# Altium schematic symbol library MyLibrary.SchLib: 320 symbols (part 3 of 7)
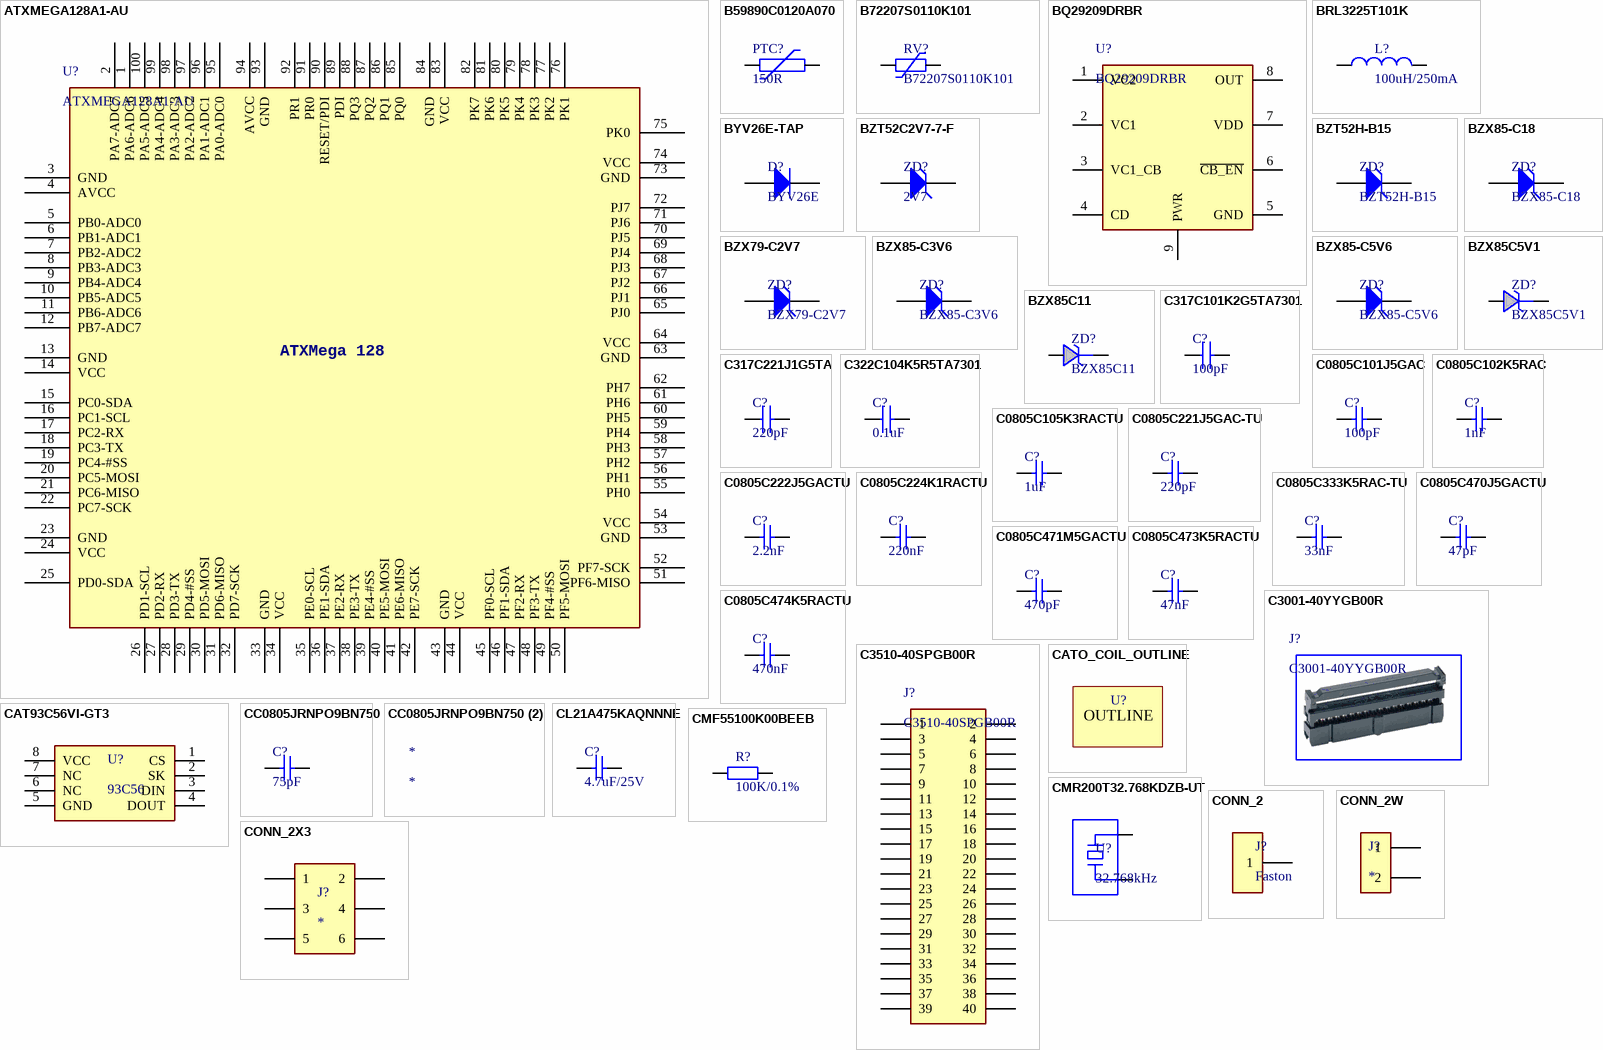
[diagram p10: symbols ATXMEGA128A1-AU to CONN_2X3]

## BZX85-C5V6
designator ZD?
ZENER 5.6V SOD123 1.3W; Manufacturer: FAIRCHILD SEMICONDUCTOR; Zener Voltage Vz Typ: 5.6; Power Dissipation Pd: 1; Diode Case Style: DO-41 (DO-204; Zener Tolerance ±: 5%; No. of Pins: 2; Product Range: BZX85; SVHC: No SVHC (15-Jun-2015); External Diameter: 2.6; External Length / Height: 4.8; Test Current: 45; Zener Current: 45mA<!--FANDB--><div class="features-and-benefits-container"><div class="features-and-benefits-description"><span class="features-benefits-value">The BZX85-C5V6 is a Zener Diode with glass case. This product is general usage and suitable for many different applications.</span></div><div class="features-and-benefits-list"><ul class="features-and-benefits-list-list"><li class="features-and-benefits-list-item">-65 to 200; .PCBChecked: BP; Manufacturer Part Number: BZX85-C5V6; RoHS: YES; Operating Temperature Max: 200; Packaging: Each; Automotive Qualification Standard: -; Device Marking: BZX85-C5V6; Diode Type: Zener; Operating Temperature Min: -65; Operating Temperature Range: -65°C to +200; Power Dissipation Max: 1; Power Dissipation Ptot Max: 1; Tolerance: 5%; ComponentLink1URL: http://www.farnell.com/datasheets/2277360.pdf; ComponentLink1Description: Datasheet; Category: Diodes; Package: SOD3716X135N; Type: SMD; .SCHChecked: BP; Supplier 1: Future Electronics; Supplier Part Number 1: MMSZ4690T1G
footprint SOD123 (SODFL, 2-Leads, Body 1,50x5,20mm, IPC Medium Density)
pins: A, C

## BZX85-C18
designator ZD?
ZENER 18V DO41 1W; Manufacturer: Fairchild Semiconductor; Configuration: Single; Nominal Zener Voltage: 17.95 V; Zener Voltage Tolerance: 5 %; Maximum Power Dissipation: 1000 mW; Maximum Reverse Leakage Current: 0.5 uA; Rad Hard: No; Supplier 1: Farnell; Manufacturer Part Number: BZX85-C18; Stock 1: 4164; Pricing 1: 5=0.182, 25=0.178, 100=0.0687, 1000=0.0344, 3000=0.0319, 6000=0.0293, 20000=0.0262, 60000=0.0257 (EUR); Package: 2DO-41; Operating Temperature: -65 to 200 °C; Mounting: Through Hole; Category: Zener; Packaging: Bulk; ComponentLink1URL: https://datasheet.ciiva.com/25623/0900766b810c0855-25623848.pdf; ComponentLink1Description: Datasheet; Supplier Part Number 1: 9844120; Type: THT; Package: DO41
footprint DIODA-DO41-AC
pins: A, C

## BZX85C5V1
designator ZD?
ZENER 5.1V DO41 1W; Manufacturer: Fairchild/ON Semiconductor; Tolerance: ±6%; Current - Reverse Leakage @ Vr: 1µA @ 2V; Voltage - Forward (Vf) (Max) @ If: 1.2V @ 200mA; Manufacturer Part Number: BZX85C5V1; RoHS: RoHS Compliant; Category: Discrete Semiconductor Products; Packaging: Bulk; Part Status: Active; Power - Max: 1W; Operating Temperature: -65°C ~ 200°C; Mounting Type: Through Hole; Package: DO-204AL, DO-41, Axial; Supplier Device Package: DO-204AL (DO-41); ComponentLink1URL: https://www.fairchildsemi.com/datasheets/BZ/BZX85C10.pdf; ComponentLink1Description: Datasheet; Type: THT; Supplier 1: Farnell; Supplier Part Number 1: 9844244
footprint DIODA-DO41-AC
pins: A, C

## BZX85C11
designator ZD?
ZENER 11V DO41 1W; Manufacturer: Fairchild/ON Semiconductor; Tolerance: ±5%; Current - Reverse Leakage @ Vr: 500nA @ 7.7V; Voltage - Forward (Vf) (Max) @ If: 1.2V @ 200mA; Supplier 1: Mouser; Manufacturer Part Number: BZX85C11; RoHS: RoHS Compliant; Category: Discrete Semiconductor Products; Stock 1: 317; Pricing 1: 1=0.22, 10=0.181, 100=0.0958, 500=0.063, 1000=0.04284 (USD); Packaging: Bulk; Part Status: Active; Power - Max: 1W; Operating Temperature: -65°C ~ 200°C; Mounting Type: Through Hole; Package: DO-204AL, DO-41, Axial; Supplier Device Package: DO-204AL (DO-41); ComponentLink1URL: https://www.fairchildsemi.com/datasheets/BZ/BZX85C10.pdf; ComponentLink1Description: Datasheet; Supplier Part Number 1: 512-BZX85C11; Type: THT
footprint DIODA-DO41-AC
pins: A, C

## C317C101K2G5TA7301
designator C?, comment 100pF
CAP 100pF RADIAL 200V; Manufacturer: KEMET; Manufacturer Part Number: C317C101K2G5TA7301; Rad Hard: No; Product Height: 5.84(Max) mm; Voltage: 200 Vdc; Tolerance: 10 %; Dielectric: C0G; Lead Pitch For Radial: 5.08 mm; Product Length: 3.81(Max) mm; Product Depth: 2.54(Max) mm; Type: THT; Supplier 1: Elfa; Stock 1: 7120; Pricing 1: 1=0.3, 10=0.208, 100=0.1246, 500=0.0934, 1000=0.0789 (USD); Package/Case: 3.81(Max) X 2.54(Max) X 5.84(Max); Mounting: Through Hole; Capacitance Value: 100 pF; Operating Temperature: -55 to 125 °C; Package: Radial; Category: Capacitor Ceramic Multilayer; ComponentLink1URL: https://datasheet.ciiva.com/32430/c052-62-mlcc-series-eng-tds-32430862.pdf; ComponentLink1Description: Datasheet; Supplier Part Number 1: 165-70-733
footprint CAP_THT_5.08
pins: 1, 2

## C317C221J1G5TA
designator C?, comment 220pF
CAP 220PF RADIAL 100V; Manufacturer: KEMET; Manufacturer Part Number: C317C221J1G5TA; Dielectric Material: Ceramic; Tolerance: 5%; Dielectric: C0G; Dissipation Factor: 0.1%; Temperature Coefficient: 30ppm/°C; Lead/Base Style: Formed Leads; Lead Diameter: 0.51mm; Lead Length: 7mm; Type: THT; Supplier 1: Farnell; Stock 1: 0; Mount: Through Hole,PCB; Package: Radial; Number of Pins: 2; Min Operating Temperature: -55°C; Max Operating Temperature: 125°C; Capacitance: 220pF; Voltage Rating: 100V; Packaging: Bulk; Package Quantity: 500; Voltage Rating (DC): 100V; Termination: Radial; Composition: Ceramic; Voltage: 100V; Length: 3.81mm; Height: 2.54mm; Lead Pitch: 5.08mm; Width: 0.1inch; Height - Seated (Max): 0.23inch; Depth: 2.54mm; Radiation Hardening: No; REACH SVHC: No SVHC; Lead Free: Lead Free; ComponentLink1URL: https://datasheet.ciiva.com/5389/f3101-goldmax-334604-5389051.pdf; ComponentLink1Description: Datasheet; Supplier Part Number 1: 1457667
footprint CAP_THT_5.08
pins: 1, 2

## C322C104K5R5TA7301
designator C?, comment 0.1uF
CAP 0.1UF RADIAL 50V; Manufacturer: KEMET; Manufacturer Part Number: C322C104K5R5TA7301; Capacitance: 0.1µF; Tolerance: ±10%; Temperature Coefficient: X7R; Type: THT; Supplier 1: Avnet Abacus; RoHS: RoHS Compliant; Category: Capacitors; Stock 1: 25000; Pricing 1: 2500=0.05, 5000=0.04625, 12500=0.0415, 25000=0.04, 62500=0.0375, 125000=0.03313 (USD); Packaging: Tape & Reel (TR); Part Status: Active; Voltage - Rated: 50V; Operating Temperature: -55°C ~ 125°C; Features: -; Ratings: -; Applications: General Purpose; Failure Rate: -; Mounting Type: Through Hole; Package: Radial; Size / Dimension: 0.200" L x 0.125" W (5.08mm x 3.18mm); Height - Seated (Max): 0.260" (6.60mm); Thickness (Max): -; Lead Spacing: 0.200" (5.08mm); Lead Style: Formed Leads; ComponentLink1URL: http://www.kemet.com/Lists/ProductCatalog/Attachments/598/KEM_C1050_GOLDMAX_X7R.pdf; ComponentLink1Description: Datasheet; Supplier Part Number 1: C323C104K5R5TA7317
footprint KONDENZ-5,08-L-7,4
pins: 1, 2

## C0805C101J5GAC
designator C?, comment 100pF
CAP 100pF 0805 50V; Manufacturer: KEMET; Manufacturer Part Number: C0805C101J5GAC; Capacitance tolerance: ±5%; Ceramic type: NPO; Construction form: 0805; Rated voltage: 50VDC; Type: SMD; Supplier 1: Mouser; Stock 1: 108000; Pricing 1: 10000=0.016 (USD); Capacitance: 100pF; Temperature range: -55...+125°C; ComponentLink1URL: https://datasheet.ciiva.com/11786/0900766b8116eaf8-11786066.pdf; ComponentLink1Description: Datasheet; Supplier Part Number 1: 80-C0805C101J5GAC; Package: CAPC2012X88N
footprint C0805
footprint CAPC2012X09N (Chip Capacitor, 2-Leads, Body 2.00x1.25mm, IPC Medium Density)
pins: 1, 2 20

## C0805C102K5RAC
designator C?, comment 1nF
CAP 1nF 0805 50V; Manufacturer: KEMET; Manufacturer Part Number: C0805C102K5RAC; Part # Aliases: C0805C102K5RACTU; Capacitance: 1000 pF; Capacitance - uF: 0.001 uF; Case Height: 0.78 mm; Dissipation Factor DF: 2.5; Dielectric: X7R; Case Length: 2 mm; Case Width: 1.2 mm; Class: Class 1; Tolerance: 10 %; Temperature Coefficient / Code: +/- 15 %; Type: SMD; Supplier 1: Mouser; Stock 1: 48000; Pricing 1: 10000=0.006 (USD); Brand: Kemet; Capacitance - nF: 1 nF; Case Code - in: 0805; Case Code - mm: 2012; Dimensions: 1.2 mm W x 2 mm L x 0.78 mm H; Factory Pack Quantity: 4000; Product Category: Multilayer Ceramic Capacitors MLCC - SMD/SMT; RoHS: Details; Minimum Operating Temperature: - 55 C; Maximum Operating Temperature: + 125 C; Product: General Type MLCCs; Lead Spacing: 0.75 mm; Operating Temperature Range: - 55 C to + 125 C; Package: CAPC2012X88N; Packaging: Reel; Series: C0805C; Termination Style: SMD/SMT; Voltage Rating: 50 V; Voltage Rating DC: 50 V; ComponentLink1URL: https://datasheet.ciiva.com/48436/slceramic-chip-condensers-e-48436649.pdf; ComponentLink1Description: Datasheet; Supplier Part Number 1: 80-C0805C102K5RAC
footprint C0805
footprint CAPC2012X09N (Chip Capacitor, 2-Leads, Body 2.00x1.25mm, IPC Medium Density)
pins: 1, 2 20

## C0805C105K3RACTU
designator C?, comment 1uF
CAP 1UF 0805 25V; Manufacturer: KEMET; Manufacturer Part Number: C0805C105K3RACTU; Capacitance: 1µF; Tolerance: ±10%; Temperature Coefficient: X7R; Type: SMD; .PCBChecked: BP; Supplier 1: Avnet Abacus; RoHS: RoHS Compliant; Category: Capacitors; Stock 1: 215000; Pricing 1: 2500=0.0189, 5000=0.01739, 12500=0.01512, 25000=0.01436, 62500=0.01285, 125000=0.0104 (USD); Packaging: Tape & Reel (TR); Part Status: Active; Voltage - Rated: 25V; Operating Temperature: -55°C ~ 125°C; Features: Low ESL; Ratings: -; Applications: General Purpose; Failure Rate: -; Mounting Type: Surface Mount, MLCC; Package: CAPC2012X88N; Size / Dimension: 0.079" L x 0.049" W (2.00mm x 1.25mm); Height - Seated (Max): -; Thickness (Max): 0.055" (1.40mm); Lead Spacing: -; Lead Style: -; ComponentLink1URL: http://www.kemet.com/docfinder?Partnumber=C0805C105K3RACTU; ComponentLink1Description: Datasheet; Supplier Part Number 1: C0805C105K3RACTU; .SCHChecked: BP
footprint C0805
footprint CAPC2012X09N (Chip Capacitor, 2-Leads, Body 2.00x1.25mm, IPC Medium Density)
pins: 1, 2 20

## C0805C221J5GAC-TU
designator C?, comment 220pF
CAP 220PF 0805 50V; Manufacturer: KEMET; Manufacturer Part Number: C0805C221J5GAC-TU; Dielectric Material: Ceramic; Tolerance: 5%; Dielectric: C0G; Temperature Coefficient: 30ppm/°C; Dissipation Factor: 0.1%; Type: SMD; Supplier 1: Avnet; Stock 1: 1553; Pricing 1: 1=0.0177, 40=0.0177, 100=0.0176, 200=0.0176, 500=0.0175 (USD); Mount: Surface Mount,PCB; Case/Package: 0805; Number of Pins: 2; Case Code (Metric): 2012; Case Code (Imperial): 0805; Contact Material: Tin; Min Operating Temperature: -55°C; Max Operating Temperature: 125°C; Capacitance: 220pF; Voltage Rating (DC): 50V; Packaging: Tape and Reel; Voltage: 50V; Termination: SMD/SMT; Voltage Rating: 50V; Package Quantity: 1; Length: 2mm; Height: 0.78mm; Depth: 1.25mm; Width: 0.049inch; Thickness: 0.035inch; Lead Pitch: 0.75mm; Radiation Hardening: No; Lead Free: Lead Free; REACH SVHC: No SVHC; ComponentLink1URL: https://datasheet.ciiva.com/5421/kem-c1003-c0g-smd-356956-5421295.pdf; ComponentLink1Description: Datasheet; Supplier Part Number 1: C0805C221J5GAC TU/BKN; Package: CAPC2012X88N
footprint C0805
footprint CAPC2012X09N (Chip Capacitor, 2-Leads, Body 2.00x1.25mm, IPC Medium Density)
pins: 1, 2 20

## C0805C222J5GACTU
designator C?, comment 2.2nF
CAP 2.2NF 0805 50V; Manufacturer: KEMET; Manufacturer Part Number: C0805C222J5GACTU; Dielectric Material: Ceramic; Tolerance: 5%; Dielectric: C0G; Temperature Coefficient: 30ppm/°C; Type: SMD; Supplier 1: Digi-Key; RoHS: Yes; Stock 1: 1635; Pricing 1: 1 = 0.27000, 10 = 0.18100, 100 = 0.09180, 500 = 0.06280, 1000 = 0.05556 (USD); Mount: Surface Mount; Case/Package: 0805; Number of Pins: 2; Weight: 0.000194oz; Case Code (Metric): 2012; Case Code (Imperial): 0805; Contact Plating: Tin; Min Operating Temperature: -55°C; Max Operating Temperature: 125°C; Capacitance: 2.2nF; Packaging: Tape and Reel; Voltage Rating: 50V; Package Quantity: 1; Voltage Rating (DC): 50V; Termination: SMD/SMT; Voltage: 50V; Length: 2mm; Height: 0.78mm; Width: 0.049inch; Thickness: 0.035inch; Depth: 1.25mm; Radiation Hardening: No; REACH SVHC: No SVHC; Lead Free: Lead Free; ComponentLink1URL: https://datasheet.ciiva.com/18193/getdatasheetpartid-349416-18193654.pdf?src-supplier=Verical; ComponentLink1Description: Datasheet; Supplier Part Number 1: 399-8042-1-ND; Package: CAPC2012X88N
footprint C0805
footprint CAPC2012X09N (Chip Capacitor, 2-Leads, Body 2.00x1.25mm, IPC Medium Density)
pins: 1, 2 20

## C0805C224K1RACTU
designator C?, comment 220nF
CAP 220NF 0805 100V; Manufacturer: KEMET; Manufacturer Part Number: C0805C224K1RACTU; Dielectric Material: Ceramic; Tolerance: 10%; Dielectric: X7R; Type: SMD; Supplier 1: Farnell; Stock 1: 11912; Pricing 1: 5=0.25700, 50=0.15700, 250=0.12000, 500=0.10300, 1000=0.08790 (GBP); RoHS: Yes; Mount: Surface Mount; Case/Package: 0805; Number of Pins: 2; Case Code (Metric): 2012; Case Code (Imperial): 0805; Min Operating Temperature: -55°C; Max Operating Temperature: 125°C; Package Quantity: 1; Packaging: Tape and Reel; Termination: SMD/SMT; Voltage: 100V; Capacitance: 220nF; Voltage Rating: 100V; Voltage Rating (DC): 100V; Length: 2mm; Height: 1.25mm; Width: 0.049inch; Depth: 1.25mm; Thickness: 0.055inch; Radiation Hardening: No; REACH SVHC: No SVHC; ComponentLink1URL: https://datasheet.ciiva.com/22699/1851736-22699751.pdf?src-supplier=Element14; ComponentLink1Description: Datasheet; Supplier Part Number 1: 1793829; Package: CAPC2012X88N
footprint C0805
footprint CAPC2012X09N (Chip Capacitor, 2-Leads, Body 2.00x1.25mm, IPC Medium Density)
pins: 1, 2 20

## C0805C333K5RAC-TU
designator C?, comment 33nF
CAP 33NF 0805 50V; Manufacturer: KEMET; Manufacturer Part Number: C0805C333K5RAC-TU; Dielectric Material: Ceramic; Tolerance: 10%; Dielectric: X7R; Type: SMD; Supplier 1: Avnet; Stock 1: 297119; Pricing 1: 4000=0.0122, 8000=0.0108, 16000=0.0107, 24000=0.0107, 40000=0.0093 (USD); Mount: Surface Mount,PCB; Case/Package: 0805; Number of Pins: 2; Case Code (Imperial): 0805; Case Code (Metric): 2012; Contact Plating: Tin,Matte; Min Operating Temperature: -55°C; Max Operating Temperature: 125°C; Capacitance: 33nF; Packaging: Tape and Reel; Voltage Rating (DC): 50V; Termination: SMD/SMT; Voltage: 50V; Voltage Rating: 50V; Package Quantity: 1; Length: 2mm; Height: 0.78mm; Depth: 1.25mm; Width: 1.2mm; Lead Pitch: 0.75mm; Thickness: 0.035inch; Radiation Hardening: No; REACH SVHC: No SVHC; ComponentLink1URL: https://datasheet.ciiva.com/14589/70095383-14589566.pdf; ComponentLink1Description: Datasheet; Supplier Part Number 1: C0805C333K5RAC TU; Package: CAPC2012X88N
footprint C0805
footprint CAPC2012X09N (Chip Capacitor, 2-Leads, Body 2.00x1.25mm, IPC Medium Density)
pins: 1, 2 20

## C0805C470J5GACTU
designator C?, comment 47pF
CAP 47PF 0805 50V; Manufacturer: KEMET; Manufacturer Part Number: C0805C470J5GACTU; Type: SMD; .PCBChecked: BP; Supplier 1: Avnet Abacus; RoHS: YES; Stock 1: 27155; Pricing 1: 10=0.0265, 100=0.0178, 500=0.0131, 1000=0.0103, 2000=0.01 (GBP); ComponentLink1URL: http://www.farnell.com/datasheets/2207127.pdf; ComponentLink1Description: Datasheet; Supplier Part Number 1: C0805C470J5GACTU; Category: Capacitors; .SCHChecked: BP; Package: CAPC2012X88N
footprint C0805
footprint CAPC2012X09N (Chip Capacitor, 2-Leads, Body 2.00x1.25mm, IPC Medium Density)
pins: 1, 2 20

## C0805C471M5GACTU
designator C?, comment 470pF
CAP 470PF 0805 50V; Manufacturer: KEMET; Manufacturer Part Number: C0805C471M5GACTU; Dielectric Material: Ceramic; Tolerance: 20%; Dielectric: C0G; Dissipation Factor: 0.1%; Type: SMD; Supplier 1: Avnet Europe; Stock 1: 0; Pricing 1: 8000=0.0443, 16000=0.0318, 24000=0.0265, 40000=0.021, 80000=0.0186 (EUR); Mount: Surface Mount; Case/Package: 0805; Case Code (Metric): 2012; Case Code (Imperial): 0805; Min Operating Temperature: -55°C; Max Operating Temperature: 125°C; Package Quantity: 4000; Capacitance: 470pF; Voltage Rating: 50V; Packaging: Tape and Reel; Voltage Rating (DC): 50V; Termination: SMD/SMT; Length: 2mm; Height: 0.78mm; Width: 0.049inch; Thickness: 0.035inch; Lead Pitch: 0.75mm; Depth: 1.25mm; Lead Free: Lead Free; ComponentLink1URL: https://datasheet.ciiva.com/13381/kem-c1003-c0g-smd-356956-13381565.pdf; ComponentLink1Description: Datasheet; Supplier Part Number 1: C0805C471M5GAC7800; Package: CAPC2012X88N
footprint C0805
footprint CAPC2012X09N (Chip Capacitor, 2-Leads, Body 2.00x1.25mm, IPC Medium Density)
pins: 1, 2 20

## C0805C473K5RACTU
designator C?, comment 47nF
CAP 47NF 0805 50V; Manufacturer: KEMET; Manufacturer Part Number: C0805C473K5RACTU; Type: SMD; .PCBChecked: BP; Supplier 1: Farnell; RoHS: YES; Stock 1: 48135; Pricing 1: 10=0.0316, 100=0.0207, 500=0.0156, 1000=0.0119, 2000=0.011 (GBP); ComponentLink1URL: http://www.farnell.com/datasheets/2207129.pdf; ComponentLink1Description: Datasheet; Supplier Part Number 1: 1414697; Category: Capacitors; Package: CAPC2012X88N; .SCHChecked: BP
footprint C0805
footprint CAPC2012X09N (Chip Capacitor, 2-Leads, Body 2.00x1.25mm, IPC Medium Density)
pins: 1, 2 20

## C0805C474K5RACTU
designator C?, comment 470nF
CAP 470nF 0805 50V; Manufacturer: KEMET; Manufacturer Part Number: C0805C474K5RACTU; Part # Aliases: C0805C474K5RAC7800; Capacitance: 0.47 uF; Capacitance - pF: 470000 pF; Case Height: 1 mm; Dielectric: X7R; Case Length: 2 mm; Case Width: 1.2 mm; Class: Class 1; Tolerance: 10 %; Temperature Coefficient / Code: +/- 15 %; Type: SMD; Supplier 1: Avnet Abacus; Stock 1: 95318; Pricing 1: 1=0.28, 10=0.193, 100=0.1092, 500=0.0771, 1000=0.0675 (USD); Brand: Kemet; Capacitance - nF: 470 nF; Case Code - in: 0805; Case Code - mm: 2012; Dimensions: 1.2 mm W x 2 mm L x 1 mm H; Factory Pack Quantity: 2500; Voltage Rating: 50 V; Product Category: Multilayer Ceramic Capacitors MLCC - SMD/SMT; RoHS: Details; Voltage Rating DC: 50 V; Minimum Operating Temperature: - 55 C; Maximum Operating Temperature: + 125 C; Product: General Type MLCCs; Operating Temperature Range: - 55 C to + 125 C; Package: CAPC2012X88N; Packaging: Reel; Series: C0805C; Termination Style: SMD/SMT; ComponentLink1URL: https://datasheet.ciiva.com/5411/kem-c1002-x7r-smd-5411451.pdf; ComponentLink1Description: Datasheet; Supplier Part Number 1: C0805C102K5RACTU
footprint C0805
footprint CAPC2012X09N (Chip Capacitor, 2-Leads, Body 2.00x1.25mm, IPC Medium Density)
pins: 1, 2 20

## C3001-40YYGB00R
designator J?  (no BOM)
CONN2X20 IDC FEMALE; Manufacturer: Hsuan Mao Technology; Current Rating: 1A; Pitch: 2.54mm; Number of Contacts: 40; Supplier 1: Distrelec; Manufacturer Part Number: C3001-40YYGB00R; Stock 1: 2240; Pricing 1: 1 = 1.64000, 50 = 1.38000, 100 = 1.16000 (EUR); Contact Material: Bronze; Housing Material: Thermoplastic; Contact Gender: Female; Gender: Female; ComponentLink1URL: https://datasheet.ciiva.com/14157/04315008-14157205.pdf?src-supplier=Distrelec; ComponentLink1Description: Datasheet; Supplier Part Number 1: 14315073; Number of Rows: 2; Type: THT

## C3510-40SPGB00R
designator J?
CONN2X20 IDC MALE; Manufacturer: Hsuan Mao Technology; Current Rating: 3A; Pitch: 2.54mm; Supplier 1: Elfa; Manufacturer Part Number: C3510-40SPGB00R; Stock 1: 2061; Pricing 1: 1 = 1.11000, 50 = 0.87000, 100 = 0.64000 (EUR); Contact Material: Gold; Housing Material: Thermoplastic; Contact Gender: Male; ComponentLink1URL: https://datasheet.ciiva.com/14156/04315503-14156870.pdf?src-supplier=Distrelec; ComponentLink1Description: Datasheet; Supplier Part Number 1: 14315560; Type: THT
footprint CONN2X20_MOLEX
pins: 1, 2, 3, 4, 5, 6, 7, 8, 9, 10, 11, 12, 13, 14, 15, 16, 17, 18, 19, 20, 21, 22, 23, 24, 25, 26, 27, 28, 29, 30, 31, 32, 33, 34, 35, 36, 37, 38, 39, 40

## CAT93C56VI-GT3
designator U?, comment 93C56
EEPROM 2KBIT SOIC8 2MHz; Manufacturer: ON Semiconductor; Manufacturer Part Number: CAT93C56VI-GT3; Memory Type: Non-Volatile; Memory Size: 2Kb (256 x 8, 128 x 16); Interface: Microwire, 3-Wire Serial; Voltage - Supply: 1.8 V ~ 5.5 V; .PCBChecked: BP; Supplier 1: RS Components; RoHS: RoHS Compliant; Category: Integrated Circuits (ICs); Stock 1: 7025; Pricing 1: 1=0.2, 10=0.201, 100=0.1647, 500=0.16008, 1000=0.1558 (USD); Packaging: Cut Tape (CT); Part Status: Active; Memory Format: EEPROM; Speed: 2MHz; Operating Temperature: -40°C ~ 85°C (TA); Package: SOIC127P600X175-8N; Supplier Device Package: 8-SOIC; ComponentLink1URL: http://www.onsemi.com/pub_link/Collateral/CAT93C56-D.PDF; ComponentLink1Description: Datasheet; Supplier Part Number 1: 781-4985P; Type: SMD; .SCHChecked: BP
footprint SOIC8 (SOIC, 8-Leads, Body 4,90x3,90mm, Pitch 1,27mm, IPC Medium Density)
pins: 1 CS, 2 SK, 3 DIN, 4 DOUT, 5 GND, 6 NC, 7 NC, 8 VCC

## CATO_COIL_OUTLINE
designator U?, comment OUTLINE  (value not drawn)  (no BOM)
footprint CATO_COIL_OUTLINE

## CC0805JRNPO9BN750
designator C?, comment 75pF
CAP 75PF 0805 50V; Manufacturer: Yageo; Manufacturer Part Number: CC0805JRNPO9BN750; Tolerance: 5%; Dielectric: C0G; Type: SMD; Supplier 1: Mouser; RoHS: Yes; Stock 1: 9590; Pricing 1: 1 = 0.17000, 10 = 0.08300, 50 = 0.08300, 100 = 0.03700, 1000 = 0.03100, 4000 = 0.02200, 8000 = 0.02100, 10000 = 0.02100, 24000 = 0.02000, 48000 = 0.01900, 100000 = 0.01500 (USD); Mount: Surface Mount; Case/Package: 0805; Weight: 0.000194oz; Case Code (Imperial): 0805; Case Code (Metric): 2012; Min Operating Temperature: -55°C; Max Operating Temperature: 125°C; Capacitance: 75pF; Packaging: Tape and Reel; Voltage Rating (DC): 50V; Termination: SMD/SMT; Composition: Ceramic; Voltage Rating: 50V; Length: 0.079inch; Width: 0.049inch; Thickness: 0.028inch; ComponentLink1URL: http://www.mouser.com/ds/2/447/Yageo_UPY-GP_NP0_16V-to-50V_9-358835.pdf?src-supplier=Mouser; ComponentLink1Description: Datasheet; Supplier Part Number 1: 603-CC805JRNPO9BN750; Package: CAPC2012X88N
footprint C0805
footprint CAPC2012X09N (Chip Capacitor, 2-Leads, Body 2.00x1.25mm, IPC Medium Density)
pins: 1, 2 20

## CC0805JRNPO9BN750 (2)
designator *
Multilayer Ceramic Capacitors MLCC - SMD/SMT 75pF 50V NPO 5%; Manufacturer: Yageo; Manufacturer Part Number: CC0805JRNPO9BN750; Dielectric: C0G; Supplier 1: Digi-Key; RoHS: Yes; Stock 1: 3298; Pricing 1: 1 = 0.17000, 10 = 0.12000, 100 = 0.05660, 500 = 0.03972, 1000 = 0.03288 (USD); Mount: Surface Mount; Case/Package: 0805; Weight: 0.000194oz; Case Code (Imperial): 0805; Case Code (Metric): 2012; Min Operating Temperature: -55°C; Max Operating Temperature: 125°C; Capacitance: 75pF; Tolerance: 5%; Packaging: Tape and Reel; Voltage Rating (DC): 50V; Termination: SMD/SMT; Composition: Ceramic; Voltage Rating: 50V; Length: 0.079inch; Width: 0.049inch; Thickness: 0.028inch; ComponentLink1URL: http://www.mouser.com/ds/2/447/Yageo_UPY-GP_NP0_16V-to-50V_9-358835.pdf?src-supplier=Mouser; ComponentLink1Description: http://www.mouser.com/ds/2/447/Yageo_UPY-GP_NP0_16V-to-50V_9-358835.pdf?src-supplier=Mouser; ComponentLink2URL: http://www.yageo.com/exep/pages/download/literatures/ProductSelectionGuide%202014_Final_2.pdf?src-supplier=Digi-Key; ComponentLink2Description: http://www.yageo.com/exep/pages/download/literatures/ProductSelectionGuide%202014_Final_2.pdf?src-supplier=Digi-Key; Supplier Part Number 1: 311-4243-1-ND

## CL21A475KAQNNNE
designator C?, comment 4.7uF/25V
CAP 4.7UF 0805 25V; Manufacturer: Samsung; Manufacturer Part Number: CL21A475KAQNNNE; Tolerance: 10%; Dielectric: X5R; Type: SMD; Supplier 1: Digi-Key; Stock 1: 507830; Pricing 1: 1=0.19000, 10=0.12900, 100=0.06550, 500=0.04482, 1000=0.03965 (USD); RoHS: Yes; Mount: Surface Mount; Case/Package: 0805; Case Code (Metric): 2012; Case Code (Imperial): 0805; Min Operating Temperature: -55°C; Max Operating Temperature: 85°C; Package Quantity: 1; Packaging: Tape and Reel; Capacitance: 4.7uF; Voltage Rating: 25V; Voltage Rating (DC): 25V; Length: 2mm; Height: 1.25mm; Width: 0.049inch; Thickness: 0.055inch; Depth: 1.25mm; Radiation Hardening: No; Lead Free: Lead Free; ComponentLink1URL: https://datasheet.ciiva.com/25798/cl21a475kaqnnne-25798882.pdf?src-supplier=Digi-Key; ComponentLink1Description: Datasheet; Supplier Part Number 1: 1276-1244-1-ND; Package: CAPC2012X88N
footprint C0805
footprint CAPC2012X09N (Chip Capacitor, 2-Leads, Body 2.00x1.25mm, IPC Medium Density)
pins: 1, 2 20

## CMF55100K00BEEB
designator R?, comment 100K/0.1%
RES 100K AXIAL 0.5W 0.1%; Manufacturer: Vishay Dale; Manufacturer Part Number: CMF55100K00BEEB; Resistance: 100kR; Power Rating: 500mW; Voltage Rating: 250V; Temperature Coefficient: 25ppm/°C; Lead Diameter: 0.64mm; Supplier 1: Mouser; Stock 1: 785; Pricing 1: 1=0.71, 10=0.71, 50=0.65, 100=0.491, 1000=0.302, 10000=0.279 (USD); Package: Axial; Number of Pins: 2; Weight: 0.007055oz; Contact Plating: Tin,Matte; Min Operating Temperature: -55°C; Max Operating Temperature: 175°C; Tolerance: 0.1%; Packaging: Tape and Reel; Package Quantity: 1000; Composition: Metal Film; Termination: Axial; Number of Terminations: 2; Max Power Dissipation: 500mW; Voltage Rating (DC): 250V; Diameter: 2.29mm; Length: 6.1mm; Width: 2.29mm; Radiation Hardening: No; REACH SVHC: Unknown; Lead Free: Lead Free; ComponentLink1URL: https://datasheet.ciiva.com/2719/cmfind-2719485.pdf; ComponentLink1Description: Datasheet; Supplier Part Number 1: 71-CMF55100K00BEEB; Type: THT
footprint RESAD1020W60L680D127B
pins: 1, 2

## CMR200T32.768KDZB-UT
designator U?, comment 32.768kHz
CRYSTAL 32.768KHZ SMD; Manufacturer: Citizen; Manufacturer Part Number: CMR200T32.768KDZB-UT; Frequency Tolerance: 20ppm; Load Capacitance: 6pF; ESR (Equivalent Series Resistance): 50kR; Supplier 1: Farnell; Stock 1: 17450; Pricing 1: 5=0.44000, 50=0.25200, 250=0.23400, 500=0.22100, 1000=0.21700, 2000=0.21200, 10000=0.21100 (GBP); RoHS: Yes; Mount: Surface Mount; Case/Package: SMD/SMT; Number of Pins: 3; Min Operating Temperature: -40°C; Max Operating Temperature: 85°C; Frequency: 32.768kHz; Length: 9mm; Height: 6mm; Lead Free: Lead Free; REACH SVHC: Unknown; ComponentLink1URL: https://datasheet.ciiva.com/8049/1444520-8049676.pdf?src-supplier=Element14; ComponentLink1Description: Datasheet; Supplier Part Number 1: 1652560; Type: SMD
footprint CRYSTAL_CYLINDER
pins: 1, 2

## CONN_2
designator J?, comment Faston
CONN2; Type: THT
footprint KONEKTOR-I-FASTON
pins: 1

## CONN_2W
designator J?
CONN2, W2.5
footprint CONN2W
pins: 1, 2

## CONN_2X3
designator J?
CONN2X3; Type: THT
footprint CONN2X3
pins: 1, 2, 3, 4, 5, 6

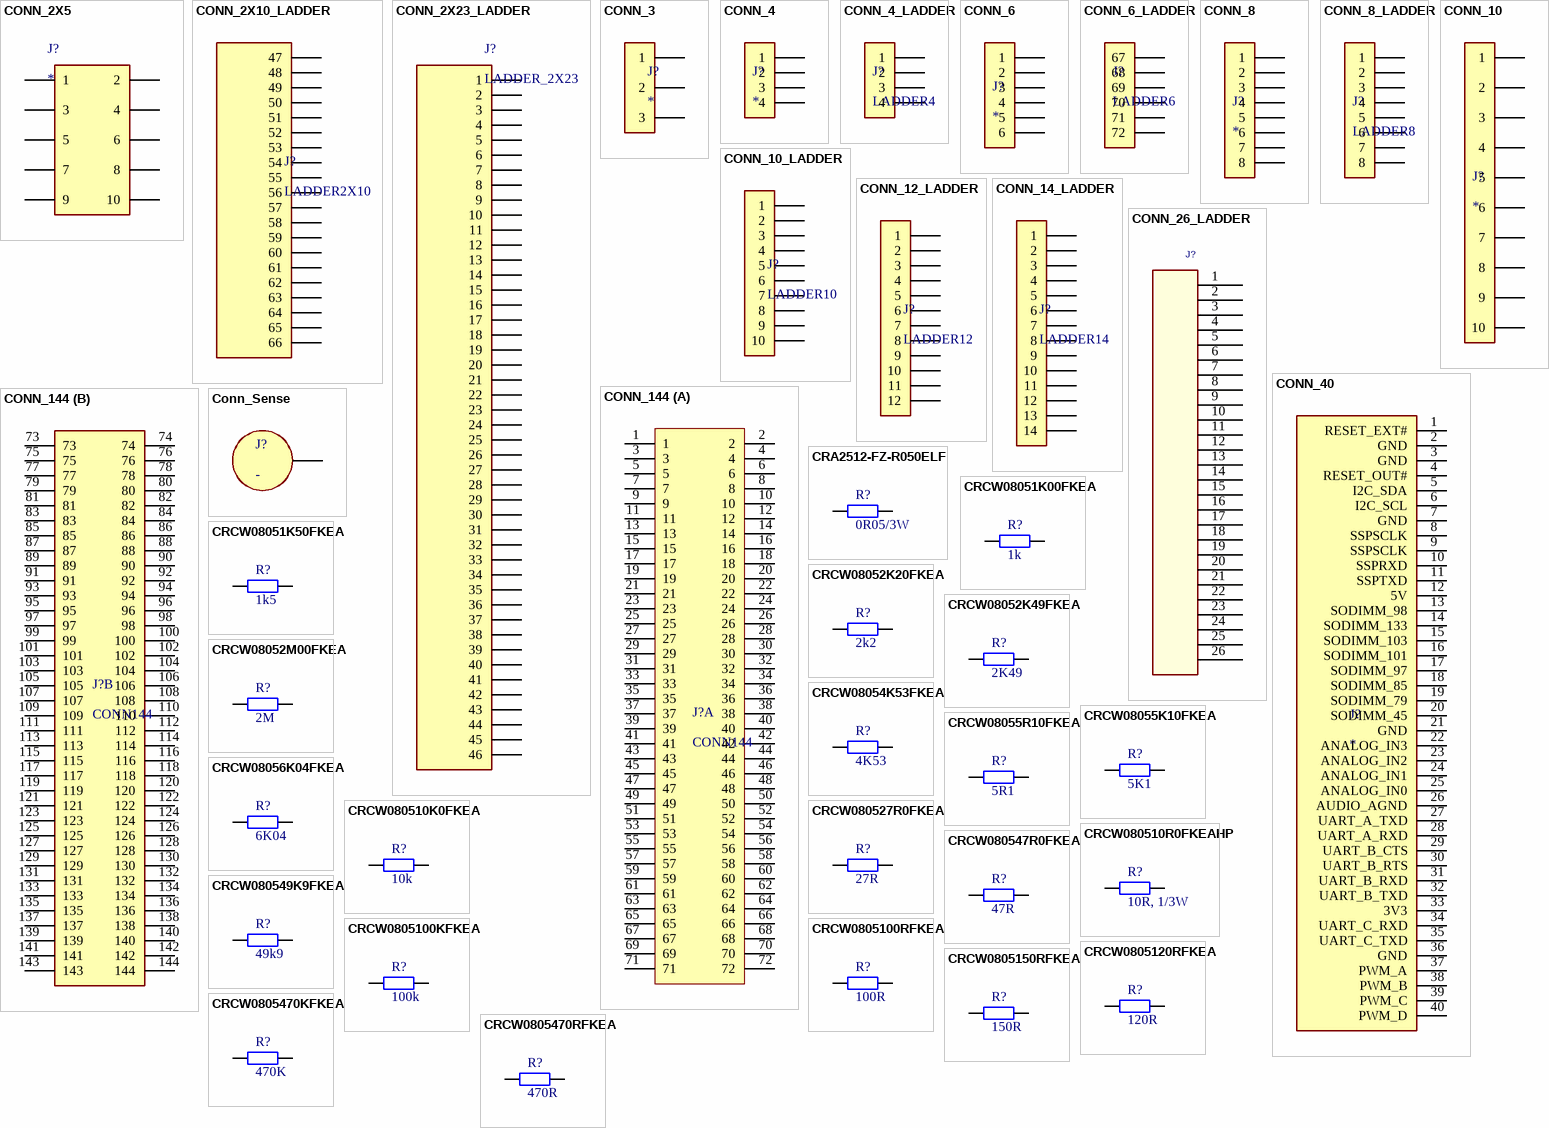
[diagram p3: symbols CONN_2X5 to CRCW0805470RFKEA]

## CONN_2X5
designator J?
CONN2X5; Type: THT
footprint CONN2X5
pins: 1, 2, 3, 4, 5, 6, 7, 8, 9, 10

## CONN_2X10_LADDER
designator J?, comment LADDER2X10
Type: THT
footprint CONN2X10_LADDER_FEMALE (USB FLASH PCB, ARM PCB)
footprint CONN2X10_LADDER_MALE (USB FLASH PCB, ARM PCB)
pins: 47, 48, 49, 50, 51, 52, 53, 54, 55, 56, 57, 58, 59, 60, 61, 62, 63, 64, 65, 66

## CONN_2X23_LADDER
designator J?, comment LADDER_2X23
LADDER2X23; Type: THT
footprint CONN2X23_LADDER_FEMALE
pins: 1, 2, 3, 4, 5, 6, 7, 8, 9, 10, 11, 12, 13, 14, 15, 16, 17, 18, 19, 20, 21, 22, 23, 24, 25, 26, 27, 28, 29, 30, 31, 32, 33, 34, 35, 36, 37, 38, 39, 40, 41, 42, 43, 44, 45, 46

## CONN_3
designator J?
CONN3; Type: THT
footprint CONN3
pins: 1, 2, 3

## CONN_4
designator J?  (no BOM)
CONN4; .PCBChecked: BP; Category: Connectors; Type: THT; .SCHChecked: BP
footprint CONN4
pins: 1, 2, 3, 4

## CONN_4_LADDER
designator J?, comment LADDER4
.PCBChecked: BP; Category: Connectors; Type: THT; .SCHChecked: BP
footprint CONN4_LADDER_FEMALE
footprint CONN4_LADDER_MALE
pins: 1, 2, 3, 4

## CONN_6
designator J?  (no BOM)
CONN6; .PCBChecked: BP; Category: Connectors; Type: THT; .SCHChecked: BP
footprint CONN6
footprint CONN2X3
pins: 1, 2, 3, 4, 5, 6

## CONN_6_LADDER
designator J?, comment LADDER6
Type: THT
footprint CONN6_LADDER_FEMALE
footprint CONN6_LADDER_MALE
pins: 67, 68, 69, 70, 71, 72

## CONN_8
designator J?
CONN8; .PCBChecked: BP; Category: Connectors; Type: THT; .SCHChecked: BP
footprint CONN8
footprint CONN2X4
pins: 1, 2, 3, 4, 5, 6, 7, 8

## CONN_8_LADDER
designator J?, comment LADDER8
.PCBChecked: BP; Category: Connectors; Type: THT; .SCHChecked: BP
footprint CONN8_LADDER_FEMALE
footprint CONN8_LADDER_MALE
pins: 1, 2, 3, 4, 5, 6, 7, 8

## CONN_10
designator J?  (no BOM)
CONN10; .PCBChecked: BP; Category: Connectors; Type: THT; .SCHChecked: BP
footprint CONN10
pins: 1, 2, 3, 4, 5, 6, 7, 8, 9, 10

## CONN_10_LADDER
designator J?, comment LADDER10
Type: THT
footprint CONN10_LADDER
pins: 1, 2, 3, 4, 5, 6, 7, 8, 9, 10

## CONN_12_LADDER
designator J?, comment LADDER12
Type: THT
footprint CONN12_LADDER
pins: 1, 2, 3, 4, 5, 6, 7, 8, 9, 10, 11, 12

## CONN_14_LADDER
designator J?, comment LADDER14
Type: THT
footprint CONN14_LADDER
pins: 1, 2, 3, 4, 5, 6, 7, 8, 9, 10, 11, 12, 13, 14

## CONN_26_LADDER
designator J?, comment LADDER26  (value not drawn)
FOOTPRINT: KONEKTOR_13X2_MEGA128; Type: THT
footprint CONN2X13_LADDER_FEMALE
footprint CONN2X13_LADDER_MALE
pins: 1, 2, 3, 4, 5, 6, 7, 8, 9, 10, 11, 12, 13, 14, 15, 16, 17, 18, 19, 20, 21, 22, 23, 24, 25, 26

## CONN_40
designator J?  (no BOM)
CONN40; .PCBChecked: BP; Category: Connectors; Type: THT; .SCHChecked: BP
footprint CONN40
pins: 1 RESET_EXT#, 2 GND, 3 GND, 4 RESET_OUT#, 5 I2C_SDA, 6 I2C_SCL, 7 GND, 8 SSPSCLK, 9 SSPSCLK, 10 SSPRXD, 11 SSPTXD, 12 5V, 13 SODIMM_98, 14 SODIMM_133, 15 SODIMM_103, 16 SODIMM_101, 17 SODIMM_97, 18 SODIMM_85, 19 SODIMM_79, 20 SODIMM_45, 21 GND, 22 ANALOG_IN3, 23 ANALOG_IN2, 24 ANALOG_IN1, 25 ANALOG_IN0, 26 AUDIO_AGND, 27 UART_A_TXD, 28 UART_A_RXD, 29 UART_B_CTS, 30 UART_B_RTS, 31 UART_B_RXD, 32 UART_B_TXD, 33 3V3, 34 UART_C_RXD, 35 UART_C_TXD, 36 GND, 37 PWM_A, 38 PWM_B, 39 PWM_C, 40 PWM_D

## CONN_144
designator J?, comment CONN144
Type: THT
footprint CONN2X36_LADDER
part A pins: 1, 2, 3, 4, 5, 6, 7, 8, 9, 10, 11, 12, 13, 14, 15, 16, 17, 18, 19, 20, 21, 22, 23, 24, 25, 26, 27, 28, 29, 30, 31, 32, 33, 34, 35, 36, 37, 38, 39, 40, 41, 42, 43, 44, 45, 46, 47, 48, 49, 50, 51, 52, 53, 54, 55, 56, 57, 58, 59, 60, 61, 62, 63, 64, 65, 66, 67, 68, 69, 70, 71, 72
part B pins: 73, 74, 75, 76, 77, 78, 79, 80, 81, 82, 83, 84, 85, 86, 87, 88, 89, 90, 91, 92, 93, 94, 95, 96, 97, 98, 99, 100, 101, 102, 103, 104, 105, 106, 107, 108, 109, 110, 111, 112, 113, 114, 115, 116, 117, 118, 119, 120, 121, 122, 123, 124, 125, 126, 127, 128, 129, 130, 131, 132, 133, 134, 135, 136, 137, 138, 139, 140, 141, 142, 143, 144

## Conn_Sense
designator J?, comment -
Connector; Type: THT
footprint DRILL4.2X9
pins: 1

## CRA2512-FZ-R050ELF
designator R?, comment 0R05/3W
RES 0R05 2512 3W 1% CURRENT SENSE; Manufacturer: Bourns; Manufacturer Part Number: CRA2512-FZ-R050ELF; Resistance: 50mR; Temperature Coefficient: 75ppm/°C; Supplier 1: Mouser; RoHS: Yes; Stock 1: 106611; Pricing 1: 1 = 0.600000, 10 = 0.383000, 50 = 0.383000, 100 = 0.298000, 1000 = 0.195000, 10000 = 0.191000 (USD); Mount: Surface Mount; Case/Package: 2512; Number of Pins: 2; Case Code (Metric): 6432; Case Code (Imperial): 2512; Contact Plating: Tin; Min Operating Temperature: -55°C; Max Operating Temperature: 170°C; Tolerance: 1%; Packaging: Tape and Reel; Power Rating: 3W; Package Quantity: 1; Composition: Metal Film; Number of Terminations: 2; Termination: SMD/SMT; Military Standard: Not; Max Power Dissipation: 3W; Features: Moisture Resistant; Length: 6.4mm; Height: 0.6mm; Width: 3.2mm; Depth: 3.2mm; Radiation Hardening: No; REACH SVHC: No SVHC; Lead Free: Lead Free; ComponentLink1URL: https://datasheet.ciiva.com/1489/1718052-1489184.pdf?src-supplier=Farnell; ComponentLink1Description: Datasheet; Supplier Part Number 1: 652-CRA2512FZ-R50ELF; Type: SMD; Package: RESC6432X60N
footprint R2512 (Chip Resistor, 2-Leads, Body 6.45x3.35mm, IPC Medium Density)
pins: 1, 2

## CRCW08051K00FKEA
designator R?, comment 1k
RES 1K 0805 0.125W 1%; Manufacturer: Vishay Dale; Manufacturer Part Number: CRCW08051K00FKEA; Power (Watts): 0.125W, 1/8W; Temperature Coefficient: ±100ppm/°C; .PCBChecked: BP; Supplier 1: Avnet Abacus; RoHS: RoHS Compliant; Category: Resistors; Stock 1: 528553; Pricing 1: 1=0.1, 10=0.042, 25=0.0304, 50=0.0232, 100=0.017, 250=0.013, 500=0.0104, 1000=0.00765 (USD); Packaging: Cut Tape (CT); Part Status: Active; Resistance (Ohms): 1k; Tolerance: ±1%; Composition: Thick Film; Features: Automotive AEC-Q200; Operating Temperature: -55°C ~ 155°C; Package: RESC2012X60N; Supplier Device Package: 0805; Size / Dimension: 0.079" L x 0.049" W (2.00mm x 1.25mm); Height - Seated (Max): 0.020" (0.50mm); Failure Rate: -; ComponentLink1URL: http://www.vishay.com/docs/20035/dcrcwe3.pdf; ComponentLink1Description: Datasheet; Supplier Part Number 1: CRCW08051K00FKEA; Type: SMD; .SCHChecked: BP
footprint R0805
footprint RESC2012X05N (Chip Resistor, 2-Leads, Body 2.05x1.25mm, IPC Medium Density)
pins: 1, 2

## CRCW08051K50FKEA
designator R?, comment 1k5
RES 1K5 0805 0.125W 1%; Manufacturer: VISHAY; Manufacturer Part Number: CRCW08051K50FKEA; .PCBChecked: BP; Supplier 1: Farnell; RoHS: Y-EX; Stock 1: 39574; Pricing 1: 10=0.0168, 100=0.0123, 500=0.0081, 1000=0.0071, 2500=0.0062 (GBP); ComponentLink1URL: http://www.farnell.com/datasheets/2111203.pdf; ComponentLink1Description: Datasheet; Supplier Part Number 1: 1652940; Category: Resistors; Package: RESC2012X60N; Type: SMD; .SCHChecked: BP; Tolerance: 1%
footprint R0805
footprint RESC2012X05N (Chip Resistor, 2-Leads, Body 2.05x1.25mm, IPC Medium Density)
pins: 1, 2

## CRCW08052K20FKEA
designator R?, comment 2k2
RES 2K2 0805 0.125W 1%; Manufacturer: Vishay Dale; Manufacturer Part Number: CRCW08052K20FKEA; Resistance (Ohms): 2.2k; Power (Watts): 0.125W, 1/8W; Temperature Coefficient: ±100ppm/°C; .PCBChecked: BP; Supplier 1: Future Electronics; RoHS: RoHS Compliant; Category: Resistors; Stock 1: 155788; Pricing 1: 1=0.1, 10=0.042, 25=0.0304, 50=0.0232, 100=0.017, 250=0.013, 500=0.0104, 1000=0.00765 (USD); Packaging: Cut Tape (CT); Part Status: Active; Tolerance: ±1%; Composition: Thick Film; Features: Automotive AEC-Q200; Operating Temperature: -55°C ~ 155°C; Package: RESC2012X60N; Supplier Device Package: 0805; Size / Dimension: 0.079" L x 0.049" W (2.00mm x 1.25mm); Height - Seated (Max): 0.020" (0.50mm); Failure Rate: -; ComponentLink1URL: http://www.vishay.com/docs/20035/dcrcwe3.pdf; ComponentLink1Description: Datasheet; Supplier Part Number 1: CRCW08052K20FKEA; Type: SMD; .SCHChecked: BP
footprint R0805
footprint RESC2012X05N (Chip Resistor, 2-Leads, Body 2.05x1.25mm, IPC Medium Density)
pins: 1, 2

## CRCW08052K49FKEA
designator R?, comment 2K49
RES 2K49 0805 0.125W 1%; Manufacturer: Vishay; Manufacturer Part Number: CRCW08052K49FKEA; Brand: Vishay / Dale; Resistance: 2.49 kOhms; Power Rating: 125 mW (1/8 W); Temperature Coefficient: 100 PPM / K; Voltage Rating: 150 V; Case Height: 0.45 mm; Case Length: 2 mm; Case Width: 1.25 mm; Unit Weight: 0.000194 oz; Supplier 1: Future Electronics; Stock 1: 66693; Pricing 1: 1=0.1, 10=0.055, 100=0.0223, 1000=0.01, 2500=0.0087 (USD); Product Category: Thick Film Resistors - SMD; RoHS: Details; Tolerance: 1 %; Case Code - in: 0805; Case Code - mm: 2012; Operating Temperature Range: - 55 C to + 155 C; Package: RESC2012X60N; Packaging: Reel; Product: Thick Film Resistors SMD; Series: CRCW; Factory Pack Quantity: 5000; ComponentLink1URL: https://datasheet.ciiva.com/11809/0900766b80d98b26-11809621.pdf; ComponentLink1Description: Datasheet; Supplier Part Number 1: CRCW08052K49FKEA; Type: SMD
footprint R0805
footprint RESC2012X05N (Chip Resistor, 2-Leads, Body 2.05x1.25mm, IPC Medium Density)
pins: 1, 2

## CRCW08052M00FKEA
designator R?, comment 2M
RES 2M 0805 0.125W 1%; Manufacturer: Vishay; Manufacturer Part Number: CRCW08052M00FKEA; Resistance: 2MR; Power Rating: 125mW; Voltage Rating: 150V; Temperature Coefficient: 100ppm/°C; Supplier 1: RSComponents; RoHS: Yes; Mount: Surface Mount; Case/Package: 0805; Number of Pins: 2; Weight: 0.000194oz; Case Code (Metric): 2012; Case Code (Imperial): 0805; Contact Plating: Tin; Min Operating Temperature: -55°C; Max Operating Temperature: 155°C; Composition: Thick Film; Tolerance: 1%; Packaging: Tape and Reel; Package Quantity: 10; Number of Terminations: 2; Termination: SMD/SMT; Military Standard: Not; Max Power Dissipation: 125mW; Voltage Rating (DC): 150V; Features: Automotive AEC-Q200; Length: 2mm; Height: 0.45mm; Width: 0.049inch; Depth: 1.25mm; Radiation Hardening: No; REACH SVHC: Unknown; Lead Free: Lead Free; ComponentLink1URL: https://datasheet.ciiva.com/11809/0900766b80d98b26-11809563.pdf?src-supplier=RSComponents; ComponentLink1Description: Datasheet; Supplier Part Number 1: 6791235P; Type: SMD; Package: RESC2012X60N
footprint R0805
footprint RESC2012X05N (Chip Resistor, 2-Leads, Body 2.05x1.25mm, IPC Medium Density)
pins: 1, 2

## CRCW08054K53FKEA
designator R?, comment 4K53
RES 4K53 0805 0.125W 1%; Manufacturer: Vishay; Manufacturer Part Number: CRCW08054K53FKEA; Power Rating: 125mW; Resistance: 4.53kR; Voltage Rating: 150V; Temperature Coefficient: 100ppm/°C; Supplier 1: RSComponents; Stock 1: 6000; RoHS: Yes; Case/Package: 0805; Number of Pins: 2; Weight: 0.000194oz; Contact Plating: Tin; Case Code (Metric): 2012; Case Code (Imperial): 0805; Min Operating Temperature: -55°C; Max Operating Temperature: 155°C; Package Quantity: 10; Packaging: Tape and Reel; Max Power Dissipation: 125mW; Tolerance: 1%; Composition: Thick Film; Number of Terminations: 2; Termination: SMD/SMT; Military Standard: Not; Voltage Rating (DC): 150V; Features: Automotive AEC-Q200; Length: 2mm; Height: 0.45mm; Width: 0.049inch; Depth: 1.25mm; Radiation Hardening: No; REACH SVHC: Unknown; Lead Free: Lead Free; ComponentLink1URL: https://datasheet.ciiva.com/11810/0900766b80d98b26-11810011.pdf?src-supplier=RSComponents; ComponentLink1Description: Datasheet; Supplier Part Number 1: 6791484; Type: SMD; Package: RESC2012X60N
footprint R0805
footprint RESC2012X05N (Chip Resistor, 2-Leads, Body 2.05x1.25mm, IPC Medium Density)
pins: 1, 2

## CRCW08055K10FKEA
designator R?, comment 5K1
RES 5K1 0805 0.125W 1%; Manufacturer: Vishay; Manufacturer Part Number: CRCW08055K10FKEA; Brand: Vishay / Dale; Resistance: 5.1 kOhms; Power Rating: 125 mW (1/8 W); Temperature Coefficient: 100 PPM / K; Voltage Rating: 150 V; Case Height: 0.45 mm; Case Length: 2 mm; Case Width: 1.25 mm; Unit Weight: 0.000194 oz; Supplier 1: Avnet Abacus; Stock 1: 58545; Pricing 1: 1=0.1, 10=0.055, 100=0.0223, 1000=0.01, 2500=0.0087 (USD); Product Category: Thick Film Resistors - SMD; RoHS: Details; Tolerance: 1 %; Case Code - in: 0805; Case Code - mm: 2012; Operating Temperature Range: - 55 C to + 155 C; Package: RESC2012X60N; Packaging: Reel; Product: Thick Film Resistors SMD; Series: CRCW; Factory Pack Quantity: 5000; ComponentLink1URL: https://datasheet.ciiva.com/11810/0900766b80d98b26-11810353.pdf; ComponentLink1Description: Datasheet; Supplier Part Number 1: CRCW08055K10FKEA; Type: SMD
footprint R0805
footprint RESC2012X05N (Chip Resistor, 2-Leads, Body 2.05x1.25mm, IPC Medium Density)
pins: 1, 2

## CRCW08055R10FKEA
designator R?, comment 5R1
RES 5R1 0805 0.125W 1%; Manufacturer: Vishay Dale; Manufacturer Part Number: CRCW08055R10FKEA; Resistance: 5.1R; Temperature Coefficient: 100ppm/°C; Power Rating: 125mW; Voltage Rating: 150V; Supplier 1: Future Electronics; RoHS: Yes; Stock 1: 10000; Pricing 1: 5000 = 0.00860, 25000 = 0.00620, 125000 = 0.00590 (USD); Case/Package: 0805; Number of Pins: 2; Weight: 0.000194oz; Contact Plating: Tin; Case Code (Imperial): 0805; Case Code (Metric): 2012; Min Operating Temperature: -55°C; Max Operating Temperature: 155°C; Tolerance: 1%; Composition: Thick Film; Packaging: Tape and Reel; Package Quantity: 10; Number of Terminations: 2; Max Power Dissipation: 125mW; Features: Automotive AEC-Q200; Military Standard: Not; Voltage Rating (DC): 150V; Length: 2mm; Height: 0.02inch; Width: 1.25mm; Depth: 1.25mm; Radiation Hardening: No; Lead Free: Lead Free; REACH SVHC: Unknown; ComponentLink1URL: https://datasheet.ciiva.com/2495/dcrcwe3-2495830.pdf?src-supplier=Digi-Key; ComponentLink1Description: Datasheet; Supplier Part Number 1: CRCW08055R10FKEA-REEL; Type: SMD; Package: RESC2012X60N
footprint R0805
footprint RESC2012X05N (Chip Resistor, 2-Leads, Body 2.05x1.25mm, IPC Medium Density)
pins: 1, 2

## CRCW08056K04FKEA
designator R?, comment 6K04
RES 6K04 0805 0.125W 1%; Manufacturer: Vishay; Manufacturer Part Number: CRCW08056K04FKEA; Resistance: 6.04kR; Power Rating: 125mW; Voltage Rating: 150V; Temperature Coefficient: 100ppm/°C; Supplier 1: Farnell; Stock 1: 7400; Pricing 1: 10=0.0694, 100=0.0284, 500=0.0236, 1000=0.0108, 2500=0.0088 (EUR); Case/Package: 0805; Number of Pins: 2; Weight: 0.000194oz; Case Code (Metric): 2012; Case Code (Imperial): 0805; Contact Plating: Tin; Min Operating Temperature: -55°C; Max Operating Temperature: 155°C; Tolerance: 1%; Packaging: Tape and Reel; Package Quantity: 10; Composition: Thick Film; Number of Terminations: 2; Termination: SMD/SMT; Military Standard: Not; Max Power Dissipation: 125mW; Voltage Rating (DC): 150V; Length: 2mm; Height: 0.45mm; Width: 0.049inch; Depth: 1.25mm; Radiation Hardening: No; REACH SVHC: Unknown; Lead Free: Lead Free; ComponentLink1URL: https://datasheet.ciiva.com/2467/dcrcwe3-2467211.pdf; ComponentLink1Description: Datasheet; Supplier Part Number 1: 1469946; Type: SMD; Package: RESC2012X60N
footprint R0805
footprint RESC2012X05N (Chip Resistor, 2-Leads, Body 2.05x1.25mm, IPC Medium Density)
pins: 1, 2

## CRCW080510K0FKEA
designator R?, comment 10k
RES 10K 0805 0.125W 1%; Manufacturer: Vishay Dale; Manufacturer Part Number: CRCW080510K0FKEA; Power (Watts): 0.125W, 1/8W; Temperature Coefficient: ±100ppm/°C; .PCBChecked: BP; Supplier 1: Future Electronics; RoHS: RoHS Compliant; Category: Resistors; Stock 1: 0; Pricing 1: 1=0.1, 10=0.042, 25=0.0304, 50=0.0232, 100=0.017, 250=0.013, 500=0.0104, 1000=0.00765 (USD); Packaging: Cut Tape (CT); Part Status: Active; Resistance (Ohms): 10k; Tolerance: ±1%; Composition: Thick Film; Features: Automotive AEC-Q200; Operating Temperature: -55°C ~ 155°C; Package: RESC2012X60N; Supplier Device Package: 0805; Size / Dimension: 0.079" L x 0.049" W (2.00mm x 1.25mm); Height - Seated (Max): 0.020" (0.50mm); Failure Rate: -; ComponentLink1URL: http://www.vishay.com/docs/20035/dcrcwe3.pdf; ComponentLink1Description: Datasheet; Supplier Part Number 1: CRCW080510K0FKEA; Type: SMD; .SCHChecked: BP
footprint R0805
footprint RESC2012X05N (Chip Resistor, 2-Leads, Body 2.05x1.25mm, IPC Medium Density)
pins: 1, 2

## CRCW080510R0FKEAHP
designator R?, comment 10R, 1/3W
RES 10R 0805 0.33W 1%; Manufacturer: Vishay; Manufacturer Part Number: CRCW080510R0FKEAHP; Brand: Vishay / Dale; Resistance: 10 Ohms; Power Rating: 330 mW; Temperature Coefficient: 100 PPM / C; Voltage Rating: 150 V; Case Height: 0.5 mm; Case Length: 2 mm; Case Width: 1.2 mm; Unit Weight: 0.000194 oz; Supplier 1: Avnet Abacus; Stock 1: 1455; Pricing 1: 1=0.28, 10=0.233, 100=0.0911, 1000=0.0381, 2500=0.0349 (USD); Product Category: Thick Film Resistors - SMD; RoHS: Details; Tolerance: 1 %; Case Code - in: 0805; Case Code - mm: 2012; Operating Temperature Range: - 55 C to + 155 C; Package: RESC2012X60N; Packaging: Reel; Product: Thick Film Resistors SMD; Series: CRCW-HP e3; Factory Pack Quantity: 5000; Type: SMD; ComponentLink1URL: https://datasheet.ciiva.com/48526/crcwhpe3-48526636.pdf; ComponentLink1Description: Datasheet; Supplier Part Number 1: AC0805FR-0710RL
footprint R0805
footprint RESC2012X05N (Chip Resistor, 2-Leads, Body 2.05x1.25mm, IPC Medium Density)
pins: 1, 2

## CRCW080527R0FKEA
designator R?, comment 27R
RES 27R 0805 0.125W 1%; Manufacturer: Vishay Dale; Manufacturer Part Number: CRCW080527R0FKEA; Resistance (Ohms): 27; Power (Watts): 0.125W, 1/8W; Temperature Coefficient: ±100ppm/°C; .PCBChecked: BP; Supplier 1: Future Electronics; RoHS: RoHS Compliant; Category: Resistors; Stock 1: 96; Pricing 1: 1=0.1, 10=0.042, 25=0.0304, 50=0.0232, 100=0.017, 250=0.013, 500=0.0104, 1000=0.00765 (USD); Packaging: Cut Tape (CT); Part Status: Active; Tolerance: ±1%; Composition: Thick Film; Features: Automotive AEC-Q200; Operating Temperature: -55°C ~ 155°C; Package: RESC2012X60N; Supplier Device Package: 0805; Size / Dimension: 0.079" L x 0.049" W (2.00mm x 1.25mm); Height - Seated (Max): 0.020" (0.50mm); Failure Rate: -; ComponentLink1URL: http://www.vishay.com/docs/20035/dcrcwe3.pdf; ComponentLink1Description: Datasheet; Supplier Part Number 1: CRCW080527R0FKEA; Type: SMD; .SCHChecked: BP
footprint R0805
footprint RESC2012X05N (Chip Resistor, 2-Leads, Body 2.05x1.25mm, IPC Medium Density)
pins: 1, 2

## CRCW080547R0FKEA
designator R?, comment 47R
RES 47R 0805 0.125W 1%; Manufacturer: Vishay; Manufacturer Part Number: CRCW080547R0FKEA; Power Rating: 125mW; Temperature Coefficient: 100ppm/°C; Voltage Rating: 150V; Supplier 1: Avnet; Stock 1: 220000; Pricing 1: 5000=0.0071, 10000=0.007, 20000=0.007, 30000=0.007, 50000=0.005 (USD); Mount: Surface Mount; Package: RESC2012X60N; Weight: 0.000194oz; Case Code (Imperial): 0805; Case Code (Metric): 2012; Contact Plating: Tin; Min Operating Temperature: -55°C; Max Operating Temperature: 155°C; Resistance: 47R; Tolerance: 1%; Composition: Thick Film; Packaging: Tape and Reel; Package Quantity: 5000; Number of Terminations: 2; Type: SMD; Military Standard: Not; Max Power Dissipation: 125mW; Voltage Rating (DC): 150V; Length: 2mm; Height: 0.45mm; Width: 1.25mm; Depth: 1.25mm; Radiation Hardening: No; Lead Free: Lead Free; REACH SVHC: Unknown; ComponentLink1URL: https://datasheet.ciiva.com/11810/0900766b80d98b26-11810031.pdf; ComponentLink1Description: Datasheet; Supplier Part Number 1: CRCW080547R0FKEA
footprint R0805
footprint RESC2012X05N (Chip Resistor, 2-Leads, Body 2.05x1.25mm, IPC Medium Density)
pins: 1, 2

## CRCW080549K9FKEA
designator R?, comment 49k9
RES 49K9 0805 0.125W 1%; Manufacturer: VISHAY; Manufacturer Part Number: CRCW080549K9FKEA; Resistance: 49.9; Voltage Rating: 150; Resistor Case Style: 0805 [2012 Metric]; Power Rating: 125 mW; Product Range: CRCW Series; Resistor Element Material: Thick Film; Temperature Coefficient: ± 100; Automotive Qualification Standard: AEC-Q200; Resistor Mounting: Surface Mount Device<!--FANDB--><div class="features-and-benefits-container"><div class="features-and-benefits-description"><span class="features-benefits-value">The Vishay D/CRCW e3 series are standard thick film chip resistors. The resistance range includes E96 and E24 decade values from 1ohm to 10Mohm. CRCW e3 series resistors have a pure tin solder contacts on the Ni barrier layer that provides compatibility with reflow soldering process.</span></div><div class="features-and-benefits-list"><ul class="features-and-benefits-list-list"><li class="features-and-benefits-list-item">Automotive grade AEC-Q200 qualified</li><li class="features-and-benefits-list-item">EIA 0402, 0603, 0805, 1206, 1210, 1218, 2010, 2512 standard case sizes available</li><li class="features-and-benefits-list-item">Stability &Delta; .PCBChecked: BP; Supplier 1: Farnell; RoHS: Y-EX; Stock 1: 4610; Pricing 1: 10=0.0168, 100=0.0123, 500=0.0092, 1000=0.0071, 2500=0.0063 (GBP); Resistance Tolerance: ± 1%; Packaging: Cut Tape; MSL: MSL 1 - Unlimited; ComponentLink1URL: http://www.farnell.com/datasheets/2111203.pdf; ComponentLink1Description: Datasheet; Supplier Part Number 1: 1469934; Category: Resistors; Package: RESC2012X60N; Type: SMD; .SCHChecked: BP; Tolerance: 1%
footprint R0805
footprint RESC2012X05N (Chip Resistor, 2-Leads, Body 2.05x1.25mm, IPC Medium Density)
pins: 1, 2

## CRCW0805100KFKEA
designator R?, comment 100k
RES 100K 0805 0.125W 1%; Manufacturer: Vishay; Manufacturer Part Number: CRCW0805100KFKEA; Resistance: 100kR; Temperature Coefficient: 100ppm/°C; Power Rating: 125mW; Voltage Rating: 150V; Supplier 1: Future Electronics; Stock 1: 0; Pricing 1: 5000=0.08 (USD); Mount: Surface Mount; Case/Package: 0805; Number of Pins: 2; Weight: 0.000194oz; Contact Plating: Tin; Case Code (Imperial): 0805; Case Code (Metric): 2012; Min Operating Temperature: -55°C; Max Operating Temperature: 155°C; Tolerance: 1%; Composition: Thick Film; Termination: SMD/SMT; Packaging: Tape and Reel; Package Quantity: 5000; Military Standard: Not; Voltage Rating (DC): 150V; Length: 2mm; Height: 0.45mm; Width: 1.25mm; Depth: 1.25mm; Radiation Hardening: No; Lead Free: Lead Free; REACH SVHC: Unknown; ComponentLink1URL: https://datasheet.ciiva.com/11809/0900766b80d98b26-11809057.pdf; ComponentLink1Description: Datasheet; Supplier Part Number 1: 4264859; Type: SMD; Package: RESC2012X60N
footprint R0805
footprint RESC2012X05N (Chip Resistor, 2-Leads, Body 2.05x1.25mm, IPC Medium Density)
pins: 1, 2

## CRCW0805100RFKEA
designator R?, comment 100R
RES 100R 0805 0.125W 1%; Manufacturer: Vishay Dale; Manufacturer Part Number: CRCW0805100RFKEA; EDA / CAD Models: Download from Accelerated Designs; Resistance (Ohms): 100; Power (Watts): 0.125W, 1/8W; Temperature Coefficient: ±100ppm/°C; Online Catalog: CRCW - Automotive Series; Kits: 541-1420-ND  - RESISTOR KIT 0-1M 1/8W 6100PCS; Other Names: 541-100CCT; Supplier 1: Avnet Abacus; Stock 1: 8771; Pricing 1: 1=0.1, 10=0.049, 50=0.049, 100=0.028, 1000=0.019, 10000=0.007 (USD); Standard Package: 10; Category: Resistors; Family: Chip Resistor - Surface Mount; Series: CRCW; Packaging: Cut Tape (CT); Tolerance: ±1%; Composition: Thick Film; Features: Automotive AEC-Q200; Operating Temperature: -55°C ~ 155°C; Package: RESC2012X60N; Supplier Device Package: 0805 (2012 Metric); Size / Dimension: 0.079" L x 0.049" W (2.00mm x 1.25mm); Height: 0.020" (0.50mm); Number of Terminations: 2; ComponentLink1URL: https://datasheet.ciiva.com/11809/0900766b80d98b26-11809126.pdf; ComponentLink1Description: Datasheet; Supplier Part Number 1: CRCW0805100RFKEA; Type: SMD
footprint R0805
footprint RESC2012X05N (Chip Resistor, 2-Leads, Body 2.05x1.25mm, IPC Medium Density)
pins: 1, 2